# Altium schematic symbol library in3ator2.SCHLIB: 42 symbols
Pins are listed as number, name and electrical type; pins without a type are passive.

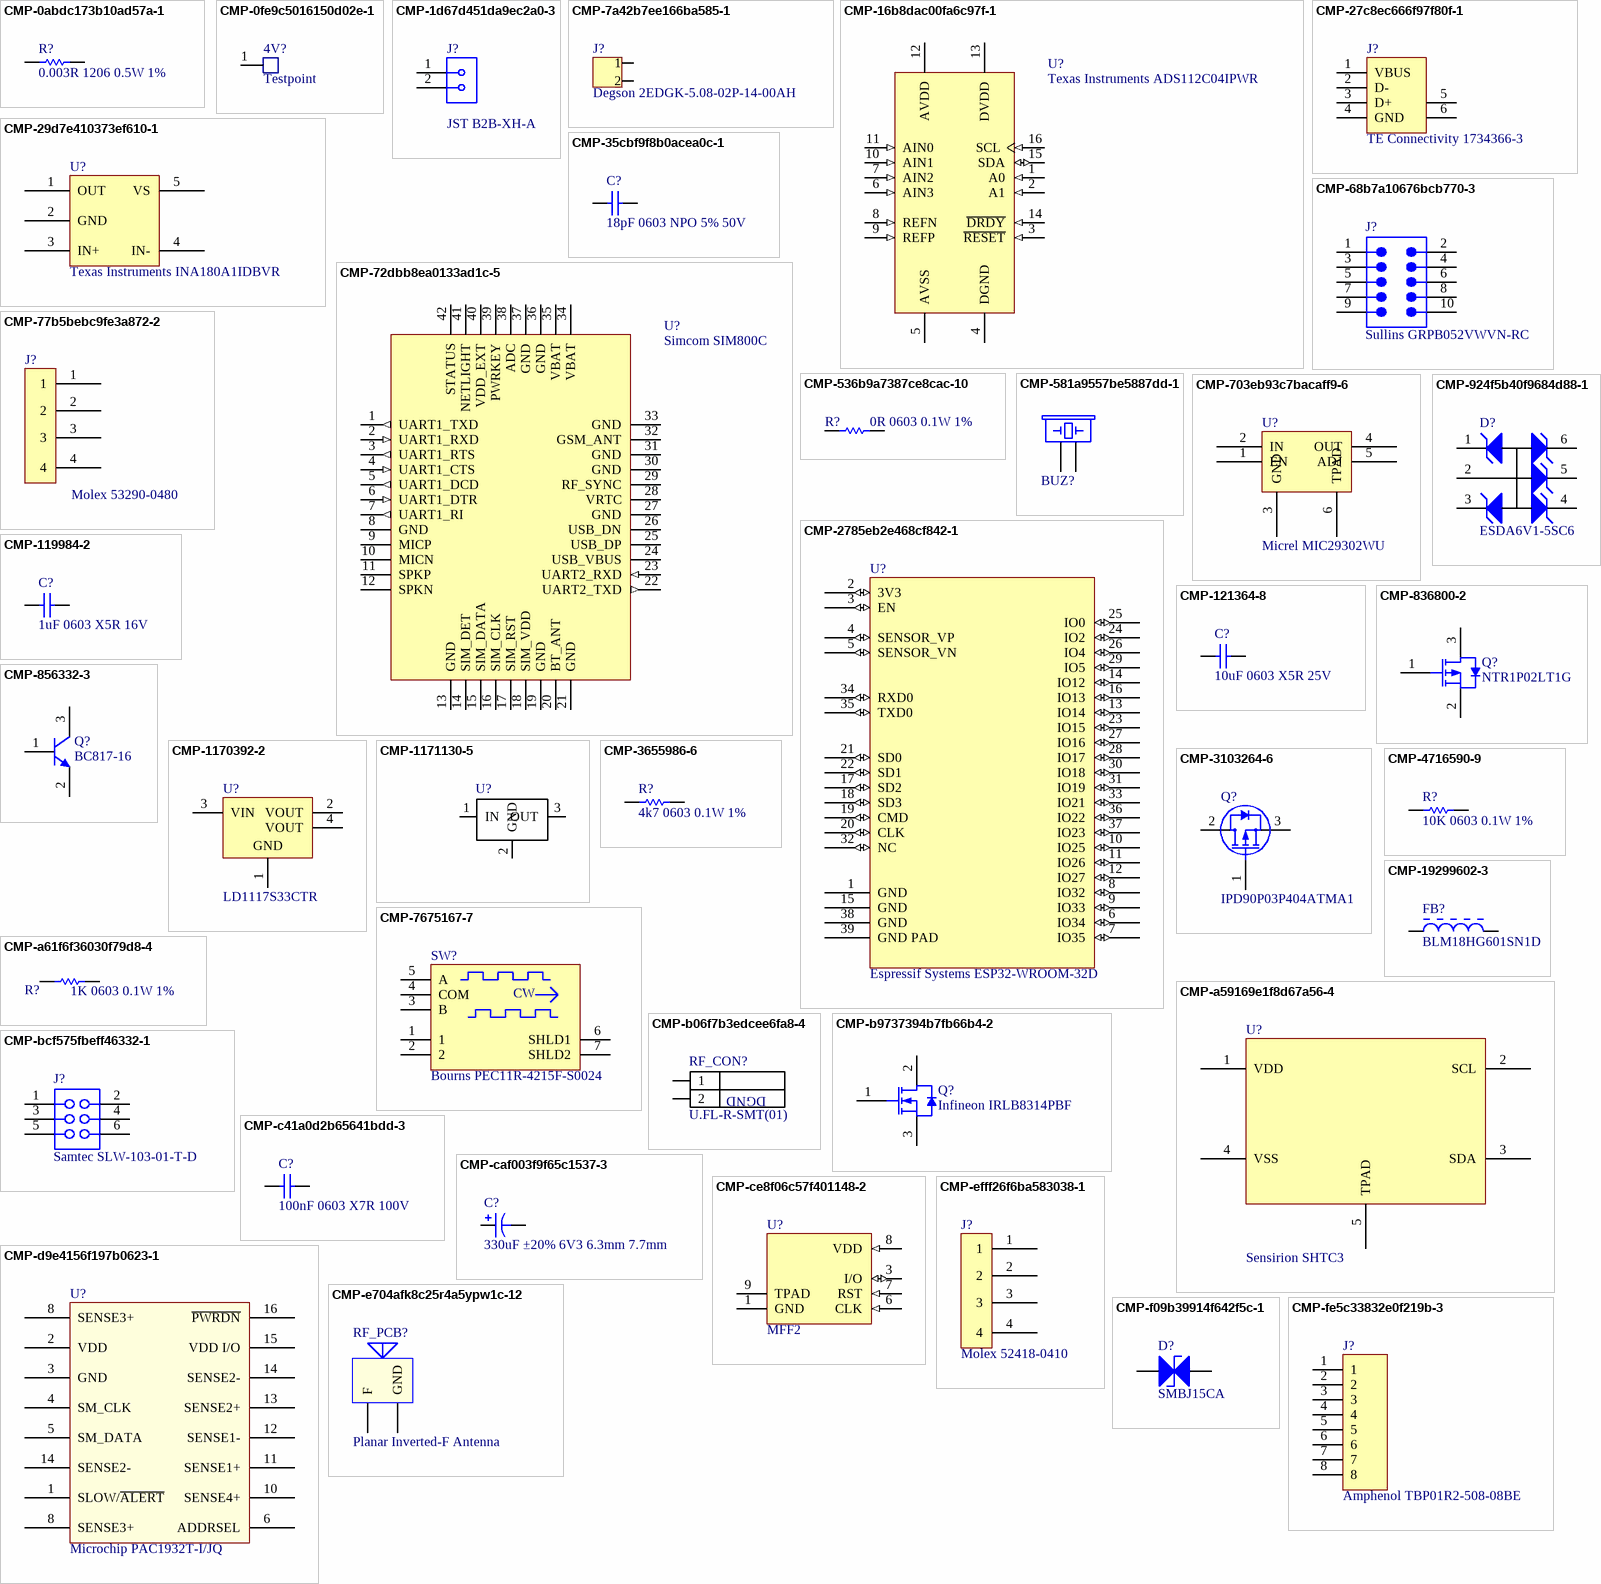
[diagram p0: symbols CMP-0abdc173b10ad57a-1 to CMP-fe5c33832e0f219b-3]

## CMP-0abdc173b10ad57a-1
designator R?, comment 0.003R 1206 0.5W 1%
Manufacturer Part Number: WSLP12065L000FEA; Resistance: 0,024; Power: 1W; Octopart URL: https://octopart.com/1-2176055-0-te+connectivity-46440145; Case/Package: 1206; Lifecycle Status: Not Listed by Manufacturer; Packaging: Tape & Reel (TR); OctopartID: 0abdc173b10ad57a; OrderingCode: WSLP12065L000FEA; Manufacturer Part Number 2: FMF06FTHR005-LHL
footprint CAPC3216X180X55ML20T25
pins: 1, 2
1 alternate drawing of the same symbol

## CMP-0fe9c5016150d02e-1
designator 4V?, comment Testpoint  (no BOM)
WR-PHD_1.27MM_JUMPER_BLACK W/ Pu; Octopart URL: https://octopart.com/622002115121-w%C3%BCrth+elektronik-65162207; Contact Material: Copper Alloy
footprint PCB-nm3bqur1hdh465dxvdoy-1 (Footprint - Weidmuller 1604830000)
pins: 1

## CMP-1d67d451da9ec2a0-3
designator J?, comment JST B2B-XH-A
Conn Shrouded Header HDR 2 POS 2.5mm Solder ST Thru-Hole Box; Contact Material: Phosphor Bronze; OctopartID: 1d67d451da9ec2a0; Orientation: Straight; Octopart URL: https://octopart.com/b2b-xh-a-jst-3990175; Manufacturer Part Number: B2B-XH-A; LCSC Part: C158012
footprint PCB-pp1at3pfx7vls1ur72ey-1 (Footprint - JST B2B-XH-A)
pins: 1, 2

## CMP-7a42b7ee166ba585-1
designator J?, comment Degson 2EDGK-5.08-02P-14-00AH
Terminal block, 5mm 2 Pos, through hole male.; Manufacturer Part Number: 2EDGK-5.08-02P-14-00AH + 2EDGVC-5.08-02P; Octopart URL: https://octopart.com/2edgk-5.08-02p-14-00ah-degson-78006607; OctopartID: 7a42b7ee166ba585; Manufacturer Part Number 2: WJ2EDGVC-5.08-2P + WJ2EDGK-5.08-2P; LCSC Part: C8445
footprint PCB-h4cyb3wxd4gf7j132tzl-1 (Footprint - TE Connectivity / AMP 1776244-2)
pins: 1, 2

## CMP-16b8dac00fa6c97f-1
designator U?, comment Texas Instruments ADS112C04IPWR
16-bit, 2-kSPS, 4-ch, low-power, small-size delta-sigma ADC with PGA, VREF, 2x IDACs & I2C interface 16-TSSOP -40 to...; Power Consumption: 1.40 mW; Case/Package: TSSOP; Lifecycle Status: Pre-Release; OctopartID: 16b8dac00fa6c97f; Number of Pins: 16; Manufacturer Part Number: ADS112C04IPWR; RoHS: Compliant; Operating Temperature: -40.0 °C to 125 °C; Octopart Url: https://octopart.com/ads112c04ipwr-texas+instruments-91372664
footprint TSOP65P640X120-16L (Footprint - Texas Instruments SN74AVC4T245PWR)
pins: 1 A0 (in) "I2C slave address select", 2 A1 (in) "I2C slave address select", 3 ~{RESET} (in) "I2C slave address select", 4 DGND (power) "Ground", 5 AVSS (power) "Ground", 6 AIN3 (in) "Differential channel 1: Negative input or single-ended channel 2 input", 7 AIN2 (in) "Differential channel 1: Negative input or single-ended channel 2 input", 8 REFN (in) "Differential channel 1: Negative input or single-ended channel 2 input", 9 REFP (in) "Differential channel 1: Negative input or single-ended channel 2 input", 10 AIN1 (in) "Differential channel 1: Negative input or single-ended channel 2 input", 11 AIN0 (in) "Differential channel 1: Positive input or single-ended channel 1 input", 12 AVDD (power) "Power supply: 2.0V to 5.5V", 13 DVDD (power) "Power supply: 2.0V to 5.5V", 14 ~{DRDY} (in) "I2C slave address select", 15 SDA (io) "Serial data: Transmits and receives data", 16 SCL (in) "Serial clock input: Clocks data on SDA"

## CMP-27c8ec666f97f80f-1
designator J?, comment TE Connectivity 1734366-3
Conn USB 2.0 Type A RCP 4 POS Solder ST Thru-Hole 4 Terminal 1 Port Tray; Gender: Female; Lead-Free Status: Lead Free; ELV Compliant: Compliant; Housing Color: Blue; Octopart URL: http://octopart.com/1734366-3-te+connectivity-44330297; Manufacturer Part Number: 1734366-3; Packaging: Tray; Lifecycle Status: Active; RoHS: Compliant; Housing Material: Thermoplastic; Contact Plating: Gold Flash, Gold Flash over Nickel; OctopartID: 27c8ec666f97f80f; LCSC Part: C32896
footprint PCB-wbedblczgi94a8su0lrn-1 (Footprint - TE Connectivity 1734366-3)
pins: 1 VBUS, 2 D-, 3 D+, 4 GND, 5 SHIELD, 6 SHIELD

## CMP-29d7e410373ef610-1
designator U?, comment Texas Instruments INA180A1IDBVR
26V, Low- or High-Side Voltage Output Current Sense Amplifier 5-SOT-23 -40 to 125; Manufacturer Part Number: INA180A3IDBVR; Lead-Free Status: Lead Free; Octopart URL: http://octopart.com/ina180a1idbvr-texas+instruments-80558991; OctopartID: 29d7e410373ef610; RoHS: Compliant; Footprint: PCB-0002-02157-1.A.1; Lifecycle Status: Active
footprint SOT23-5_D
pins: 1 OUT, 2 GND, 3 IN+, 4 IN-, 5 VS

## CMP-35cbf9f8b0acea0c-1
designator C?, comment 18pF 0603 NPO 5% 50V
Manufacturer Part Number: C0603C180K5RACTU; Capacitance: 18.0 pF; Capacitance Tolerance: ±10%; Dielectric Characteristic: X7R; Dielectric Material: Ceramic; Lead-Free Status: R; Voltage Rating (DC): 50.0 V; Octopart URL: https://octopart.com/c0603c180k5racauto-kemet-87662593; Case/Package: 0603; Mounting Style: Surface Mount; Operating Temperature: -55.0 °C (min); RoHS: Compliant; OctopartID: 35cbf9f8b0acea0c
footprint CAPC1608X60X35NL10T15
pins: 1, 2

## CMP-68b7a10676bcb770-3
designator J?, comment Sullins GRPB052VWVN-RC
GRPB Series Dual Row 10 Position 1.27 mm Pitch Through Hole Straight Header
footprint PCB-726v0lj5wyehxxuy7nut-1 (Footprint - Sullins GRPB052VWVN-RC)
pins: 1, 2, 3, 4, 5, 6, 7, 8, 9, 10

## CMP-72dbb8ea0133ad1c-5
designator U?, comment Simcom SIM800C
Module: GSM/Bluetooth; GPRS; 2G; 1800MHz, 900MHz; 85.6kbps; SMD; OctopartID: 72dbb8ea0133ad1c; Manufacturer Part Number: SIM800C; Mounting Style: Surface Mount; Octopart URL: http://octopart.com/sim800c-simcom-54220430; LCSC Part: C69120
footprint SIM800C (Footprint - Simcom SIM800C)
pins: 1 UART1_TXD (out), 2 UART1_RXD (in), 3 UART1_RTS (out), 4 UART1_CTS (in), 5 UART1_DCD (out), 6 UART1_DTR (in), 7 UART1_RI (out), 8 GND (power), 9 MICP, 10 MICN, 11 SPKP, 12 SPKN, 13 GND, 14 SIM_DET, 15 SIM_DATA, 16 SIM_CLK, 17 SIM_RST, 18 SIM_VDD, 19 GND, 20 BT_ANT, 21 GND, 22 UART2_TXD (out), 23 UART2_RXD (in), 24 USB_VBUS, 25 USB_DP, 26 USB_DN, 27 GND (power), 28 VRTC, 29 RF_SYNC, 30 GND (power), 31 GND (power), 32 GSM_ANT, 33 GND (power), 34 VBAT, 35 VBAT, 36 GND (power), 37 GND (power), 38 ADC, 39 PWRKEY, 40 VDD_EXT, 41 NETLIGHT, 42 STATUS

## CMP-77b5bebc9fe3a872-2
designator J?, comment Molex 53290-0480
Molex; SER Number 53290; 2mm Pitch 4Way 1Row Straight PCB Header; Solder Term; 1.5A; Mated Height: 6.00 mm; Gender: Male; Number of Contacts: 4; Current Rating: 1.50 A; Number of Circuits: 3, 4; Lead-Free Status: Lead Free; Pin Pitch: 2.00 mm; Glow Wire Compliant: Non-Compliant; Number of Rows: 1; Lifecycle Status: Active; OctopartID: 77b5bebc9fe3a872; Mounting Style: Through Hole; Size-Height: 6.00 mm; Size-Width: 3.70 mm; Operating Temperature: 105 °C (max); Octopart URL: https://octopart.com/53290-0480-molex-249136; Packaging: Bulk; RoHS: Compliant; Contact Plating: Tin; Halogen Free Status: Not Halogen Free; Manufacturer Part Number: 53290-0480; Number of Positions: 4; Size-Length: 11.0 mm; Orientation: Vertical
footprint PCB-az7j7v00du7ll54n3o04-1 (Footprint - Molex 53290-0480)
pins: 1, 2, 3, 4

## CMP-536b9a7387ce8cac-10
designator R?, comment 0R 0603 0.1W 1%
HelpURL: http://www.yageo.com/documents/recent/PYu-RC_Group_51_RoHS_L_9.pdf; Resistance: 0R; package: 0603
footprint RESC1609X55X30ML10T20
footprint PCB-vghjuybc2rzv8513tm8h-1 (CAPC1608X90X35NL15T15)
pins: 1, 2

## CMP-581a9557be5887dd-1
designator BUZ?, comment CUI CMT-1285C-035  (value not drawn)
Audio Buzzer Magnetic 3Vo-p 5Vo-p 70mA 3.5Vo-p 85dB Through Hole Pin Tray; Lead-Free Status: Lead Free; Octopart URL: https://octopart.com/cmt-1285c-035-cui-71811876; Manufacturer Part Number: CMT-1285C-035; Mounting Style: Through Hole; RoHS: Compliant; OctopartID: 581a9557be5887dd; Manufacturer Part Number 2: GMC1205YA-16R2048; LCSC Part: C252915
footprint BUZZER-12MM-NS
pins: 1 +, 2 -

## CMP-703eb93c7bacaff9-6
designator U?, comment Micrel MIC29302WU
MIC29302 Series 3 A 1.24 to 26 V ADJ Output Voltage LDO Regulator - TO-263-5; Footprint: PCC-0151-00797-6; LCSC Part: C9013
footprint TI-KTT5_N (DPAK, 5-Leads, Body 10.16x8.925mm, Pitch 1.7mm, IPC Medium Density)
pins: 1 EN, 2 IN, 3 GND, 4 OUT, 5 ADJ, 6 TPAD

## CMP-924f5b40f9684d88-1
designator D?, comment ESDA6V1-5SC6
ESDA Series 5 Channel 6.1 V 50 pF SMT Uni Directional Transil Array - SOT-23-6L; Operating Voltage: 6.10 V; Power Rating: 100 W; Breakdown Voltage: 7.20 V; Lead-Free Status: Lead Free; REACH SVHC Compliance: No SVHC; Number of Pins: 6; Case/Package: SOT-23; Size-Width: 1.75 mm; Mounting Style: Surface Mount; Manufacturer Part Number: ESDA6V1-5SC6; Size-Height: 1.45 mm; OctopartID: 924f5b40f9684d88; Size-Length: 3.05 mm; Packaging: Tape & Reel (TR), Cut Tape (CT); Octopart URL: http://octopart.com/esda6v1-5sc6-stmicroelectronics-347713; RoHS: Compliant; Voltage Rating (DC): 6.10 V; Lifecycle Status: Active; TME: ESDA6V1-5SC6; LCSC Part: C6650
footprint MF06A_N (SOT23, 6-Leads, Body 2.9x1.6mm, Pitch 0.95mm, Lead Span 2.8mm, IPC Medium Density)
pins: 1 K, 2 K, 3 K, 4 A, 5 A, 6 A

## CMP-2785eb2e468cf842-1
designator U?, comment Espressif Systems ESP32-WROOM-32D
SMD Module ESP32-WOOM-32D; Manufacturer Part Number: ESP32-WOOM-32D; Octopart Url: https://octopart.com/esp32-solo-1-espressif+systems-94454895; OctopartID: 2785eb2e468cf842; Mounting Style: Surface Mount; Manufacturer Part Number 2: ESP32-WROOM-32; LCSC Part: C473005
footprint PCB-1htnvixwtci0bg563is1-1
pins: 1 GND, 2 3V3 (io), 3 EN (io), 4 SENSOR_VP (io), 5 SENSOR_VN (io), 6 IO34 (io), 7 IO35 (io), 8 IO32 (io), 9 IO33 (io), 10 IO25 (io), 11 IO26 (io), 12 IO27 (io), 13 IO14 (io), 14 IO12 (io), 15 GND, 16 IO13 (io), 17 SD2 (io), 18 SD3 (io), 19 CMD (io), 20 CLK (io), 21 SD0 (io), 22 SD1 (io), 23 IO15 (io), 24 IO2 (io), 25 IO0 (io), 26 IO4 (io), 27 IO16 (io), 28 IO17 (io), 29 IO5 (io), 30 IO18 (io), 31 IO19 (io), 32 NC (io), 33 IO21 (io), 34 RXD0 (io), 35 TXD0 (io), 36 IO22 (io), 37 IO23 (io), 38 GND, 39 GND PAD

## CMP-119984-2
designator C?, comment 1uF 0603 X5R 16V
Manufacturer Part Number: GRM185R61C105KE44D; Capacitance Tolerance: ±10%; Case/Package (in): 0603; Lead-Free Status: Lead Free; Capacitance: 1uF; Dielectric Characteristic: X5R; Lifecycle Status: Active; Mounting Style: Surface Mount; Number of Pins: 2; Octopart Url: https://octopart.com/grm185r61c105ke44d-murata-197446; OctopartID: de3e1737f81e01f9; REACH SVHC Compliance: No SVHC; RoHS: Compliant; Size-Height: 0.0005 m; Size-Length: 0.0016 m; Size-Thickness: 0.0005 m; Size-Width: 0.0008 m; Rated voltage: 16V
footprint CAPC1608X60X35ML10T15
footprint CAPC1608X60X35NL10T15
footprint CAPC1608X60X35LL10T15
pins: 1, 2
1 alternate drawing of the same symbol

## CMP-121364-8
designator C?, comment 10uF 0603 X5R 25V
10uF 0603 X5R 6.3V; Rated voltage: 6v3; Dielectric carachteristic: X5R; Capacitance: 10uF; package: 0603
footprint CAPC1608X60X35NL10T15
footprint PCB-h8wyig0xzxvo0o8yi7q4-1 (CAPC1608X90X35ML10T15)
pins: 1, 2

## CMP-836800-2
designator Q?, comment NTR1P02LT1G
Power MOSFET, -20 V, -1.3 A, P-Channel, 3-Pin SOT-23, Pb-Free, Tape and Reel; Current Rating: -1.3 A; Drain to Source Resistance (on) (Rds): 0.22 Ω; Drain to Source Voltage (Vds): -20.0 V; Lead-Free Status: Lead Free; Power Dissipation: 0.4 W; Rise Time: 1.5e-08 s; Manufacturer Part Number: NTR1P02LT1G; Case/Package: SOT-23; Lifecycle Status: Active; Mounting Style: Surface Mount; Octopart Url: https://octopart.com/ntr1p02lt1g-on+semiconductor-341571; OctopartID: 11ecd8e302c9ce2b; Packaging: Tape; Polarity: P-Channel; RoHS: Compliant; Voltage Rating (DC): -20.0 V; LCSC Part: C2593
footprint ONSC-SOT-23-3-318-08_V (SOT23, 3-Leads, Body 2.92x1.3mm, Pitch 0.95mm)
pins: 1 G, 2 S, 3 D

## CMP-856332-3
designator Q?, comment BC817-16
TRANS NPN 45V 500mA SMD SOT23-3; Current Rating: 0.6 A; Lead-Free Status: Lead Free; Power Dissipation: 0.3 W; Voltage Rating (DC): 40.0 V; Case/Package: SOT-23; Lifecycle Status: Active; Mounting Style: Surface Mount; Number of Pins: 3; Octopart Url: https://octopart.com/mmbt2222a-7-f-diodes+inc.-357838; OctopartID: 53a79aa8030f8c60; Packaging: Cut Tape (CT); Polarity: NPN; REACH SVHC Compliance: No SVHC; RoHS: Compliant; LCSC Part: C507906
footprint PCB-856332-1 (DIOD-SOT23-3_V)
pins: 1 B, 2 E, 3 C

## CMP-1170392-2
designator U?, comment LD1117S33CTR
Fixed Low Drop Positive Voltage Regulator, 3.3V, 4-Pin SOT-223, Tape and Reel; Dropout Voltage: 1.1 V; Lead-Free Status: Lead Free; Number of Outputs: 1; Case/Package: SOT-223; Lifecycle Status: Active; Mounting Style: Surface Mount; Number of Pins: 3; Octopart Url: https://octopart.com/ld1117s33ctr-stmicroelectronics-526725; OctopartID: 0754ce562bb7d893; Output Voltage: 3.3 V; REACH SVHC Compliance: No SVHC; RoHS: Compliant; Manufacturer Part Number: LD1117S33CTR; LCSC Part: C35879
footprint SOT-223_M (SOT223, 4-Leads, Body 6.5x3.5mm, Pitch 2.3mm, Lead Span 7mm, IPC Low Density)
footprint SOT-223_L (SOT223, 4-Leads, Body 6.5x3.5mm, Pitch 2.3mm, Lead Span 7mm, IPC High Density)
footprint SOT-223_N (SOT223, 4-Leads, Body 6.5x3.5mm, Pitch 2.3mm, Lead Span 7mm, IPC Medium Density)
pins: 1 GND (power), 2 VOUT (power), 3 VIN (power), 4 VOUT (power)

## CMP-1171130-5
designator U?
L78M Series 500 mA 5 V Three Terminal Positive Voltage LDO Regulator - TO-252; Manufacturer Part Number: L78M05CDT-TR; Number of Outputs: 1; Dropout Voltage: 2.0 V; Lead-Free Status: Lead Free; Output Current: 0.5 A; Number of Pins: 3; Mounting Style: Surface Mount; Lifecycle Status: Active; REACH SVHC Compliance: No SVHC; OctopartID: e7772c1f5a2e38b0; Seller Landing  Url: https://octopart-clicks.com/click/track?country=US&ak=8157f166&sig=0997b0e&sid=2402&ppid=40015935&vpid=191195628&ct=offers; RoHS: Compliant; Octopart Url: http://octopart.com/l78m05cdt-tr-stmicroelectronics-40015935
footprint INF-PG-TO252-3-11_M (DPAK, 3-Leads, Body 6.5x6.12mm, Pitch 2.28mm, IPC Low Density)
pins: 1 IN, 2 GND, 3 OUT

## CMP-3103264-6
designator Q?, comment IPD90P03P404ATMA1
Single P-Channel 30 V 4.5 mOhm 100 nC OptiMOS Power Mosfet - TO-252-3-11; Lead-Free Status: Lead Free; REACH SVHC Compliance: No SVHC; Octopart URL: https://octopart.com/ipd90p03p404atma1-infineon-21386769; Polarity: P-Channel; RoHS: Compliant; Mounting Style: Surface Mount; Operating Temperature: 175 °C (max); Packaging: Reel; Number of Pins: 3; OctopartID: f6ad3ee185da296a; Manufacturer Part Number: IPD90P03P404ATMA1; Manufacturer Part Number 2: WSF70P03; LCSC Part: C148439
footprint DPAK IPD90P03P404ATMA1 (Footprint - Infineon IPD90P03P404ATMA1)
pins: 1 G, 2 D, 3 S

## CMP-3655986-6
designator R?, comment 4k7 0603 0.1W 1%
Resistance: 5k1; Tolerance: 1%; package: 0603
footprint RESC1609X55X30ML10T20
pins: 1, 2

## CMP-4716590-9
designator R?, comment 10K 0603 0.1W 1%
Octopart Url: https://octopart.com/crcw060310k0fkeahp-vishay-42634028; package: 0603; Resistance: 10k; Tolerance: 1%
footprint R0603-nominal (Footprint - Vishay Dale CRCW060310K0FKEAHP)
footprint RESC1609X55X30ML10T20
footprint PCB-c371zjm76gn0w8x4p59v-1 (Footprint - Vishay Dale CRCW060310K0FKEAHP)
footprint RESC1609X55X30LL10T20
footprint RESC1609X55X30NL10T20
footprint PCB-xlyyawtmyin8dsjhttv4-1 (Footprint - Vishay Dale CRCW060310K0FKEAHP)
footprint PCB-4abppfb21vtaf8x2o3vd-1 (Footprint - Vishay Dale CRCW060310K0FKEAHP)
pins: 1, 2
1 alternate drawing of the same symbol

## CMP-7675167-7
designator SW?, comment Bourns PEC11R-4215F-S0024
12 mm Incremental Encoder, 24 Detent, -30 to 70 degC, 5-Pin THD, RoHS, Bulk; Number of Detents: 24; Size-Length: 13.4 mm; Seller Landing  Url: https://octopart.com/click/track?country=US&ak=8157f166&sig=0be53b6&sid=1106&ppid=26648293&vpid=76310724&ct=offers; Manufacturer Part Number: PEC11R-4215F-S0024; ComponentLink2Description: Datasheet; Octopart Url: http://octopart.com/pec11r-4215f-s0024-bourns-26648293; ComponentLink1URL: http://www.bourns.com/; RoHS: Compliant; ComponentLink1Description: Manufacturer URL; PackageReference: PEC11R-4XXXF-SXXXX; PackageDescription: 5-Pin Through Hole Device, Body 12.5 x 13.4 mm; Size-Width: 12.5 mm; OctopartID: f33f3ba348bc2cf8; DatasheetVersion: Jul-14; ComponentLink2URL: http://www.bourns.com/docs/Product-Datasheets/PEC11R.pdf; REACH SVHC Compliance: No SVHC; LCSC Part: C470742
footprint BOUR-PEC11R-4XXXF-SXXXX_V (THD, 5-Leads, Body 12.5x13.4mm)
pins: 1, 2, 3 B "Channel B", 4 COM "Common", 5 A "Channel A", 6 SHLD1, 7 SHLD2
text: CW

## CMP-19299602-3
designator FB?, comment BLM18HG601SN1D
Current Rating: 0.2 A; Frequency: 100000000.0 Hz; Lead-Free Status: Lead Free; Number of Circuits: 1; Resistance: 600.0 Ω; Shielding: No; Value: 600ohm 200mA; Manufacturer Part Number: BLM18HG601SN1D; Case/Package: 0603; Mounting Style: Surface Mount; Number of Pins: 2; Octopart Url: https://octopart.com/blm18hg601sn1d-murata-368340; OctopartID: c121082e7a931ee6; REACH SVHC Compliance: No SVHC; RoHS: Compliant; Size-Height: 0.0008 m; Size-Length: 0.0016 m; Size-Width: 0.0008 m; LCSC Part: C85830
footprint MURA-BLM18-RF-H4-CHIP-2_V (Chip Ferrite Bead, 2-Leads, Body 1.6x0.8mm, Height 0.95mm, Reflow)
footprint MURA-BLM18-F-H1-CHIP-2_V (Chip Ferrite Bead, 2-Leads, Body 1.6x0.8mm, Height 0.95mm, Flow)
pins: 1, 2

## CMP-a61f6f36030f79d8-4
designator R?, comment 1K 0603 0.1W 1%
Manufacturer Part Number: CR0603-FX-1001ELF; Power Rating: 100 mW; Case/Package (SI): 1608; Voltage Rating (DC): 50.0 V; Temperature Coefficient: -100 ppm/°C to 100 ppm/°C; REACH SVHC Compliance: No SVHC; Packaging: Tape & Reel (TR), Cut Tape (CT); Resistance Tolerance: ±1%; Resistance: 1k; RoHS: Compliant; Mounting Style: Surface Mount; Number of Pins: 2; Size-Length: 1.60 mm; Octopart URL: https://octopart.com/cr0603-fx-1001elf-bourns-2326646; Size-Thickness: 457 µm; OctopartID: a61f6f36030f79d8; Size-Width: 787 µm; Case/Package: 0603
footprint RC0603_OV
footprint RESC1609X55X30ML10T20
footprint CAPC1608X60X35NL10T15
pins: 1, 2

## CMP-a59169e1f8d67a56-4
designator U?, comment Sensirion SHTC3
Humidity & Temperature Sensor ±2% RH ±0, 2°C I2C DFN4; OctopartID: a59169e1f8d67a56
footprint DFN4 2x2 + EP (Footprint - Sensirion SHTC3)
pins: 1 VDD, 2 SCL, 3 SDA, 4 VSS, 5 TPAD

## CMP-b06f7b3edcee6fa8-4
designator RF_CON?, comment U.FL-R-SMT(01)
Connector RF Coaxial Data Midget Coaxial; DNP: DNP
footprint PCB-ci0d6ius1xp1vci7q9ug-1 (Footprint - Hirose U.FL-R-SMT(01))
pins: 1 "ground", 2 "ground"
text: DGND

## CMP-b9737394b7fb66b4-2
designator Q?, comment Infineon IRLB8314PBF
Trans MOSFET N-CH 30V 171A 3-Pin(3+Tab) TO-220AB Tube; LCSC Part: C501520
footprint PCB-s29nlaacffy4qzcyhtz9-1 (Footprint - Infineon IRLB8314PBF)
pins: 1 G, 2 D, 3 S

## CMP-bcf575fbeff46332-1
designator J?, comment Samtec SLW-103-01-T-D
Dual Row Connector Female Samtec SLW-103-01-T-D; Lead-Free Status: Lead Free; Number of Contacts: 6; Pin Pitch: 2.54 mm; Voltage Rating (AC): 400 V; Gender: Female; Color: Black; Octopart URL: https://octopart.com/slw-103-01-t-d-samtec-292455; Mounting Style: Through Hole, Vertical; Contact Plating: Tin; OctopartID: bcf575fbeff46332; Operating Temperature: 105 °C (max); Size-Width: 4.95 mm; Housing Material: Plastic; Size-Length: 7.62 mm; Number of Rows: 2; Footprint: PCB-37z8hw1ej4f71bosen9e-1; Size-Height: 4.57 mm; Packaging: Tube; RoHS: Compliant; Contact Material: Phosphor Bronze; Number of Positions: 6; Housing Color: Black; REACH SVHC Compliance: No SVHC; Manufacturer Part Number: SLW-103-01-T-D
footprint PCB-37z8hw1ej4f71bosen9e-1 (Footprint - Samtec SLW-103-01-T-D)
pins: 1, 2, 3, 4, 5, 6

## CMP-c41a0d2b65641bdd-3
designator C?, comment 100nF 0603 X7R 100V
Manufacturar Part Number: CC0603KRX7R0BB104; package: 0603; capacitance: 100 nF; Dielectric Characteristic: X7R; Rated voltage: 100V
footprint PCB-vacqisieyscyt9e4k3s1-1 (CAPC1608X90X35ML10T15)
footprint CAPC1608X60X35NL10T15
footprint PCB-6og4742nbfvg9ofg3p4o-1 (CAPC1608X90X35NL15T15)
pins: 1, 2

## CMP-caf003f9f65c1537-3
designator C?, comment 330uF ±20% 6V3 6.3mm 7.7mm
330uF ±20% 6.3V 6.3mm 7.7mm; Manufacturer: Nichicon; Manufacturer Part Number: 865080145010; Capacitance: 330 µF; Lead-Free Status: Lead Free; Dielectric Material: Aluminum Electrolytic; Size-Diameter: 6.30 mm; Footprint: PCB-r5e6et9fc4gd5l77rxf0-1; Capacitance Tolerance: ±20%; Octopart URL: https://octopart.com/uwt1v101mcl1gs-nichicon-203210; Size-Height: 7.70 mm; Size-Length: 7.70 mm; RoHS: Compliant; Mounting Style: Surface Mount; Number of Pins: 2; Packaging: Tape & Reel (TR), Cut Tape (CT); OctopartID: caf003f9f65c1537; Voltage Rating (DC): 6.3 V; Operating Temperature: 105 °C (max); Manufacturer Part Number 2: CS0J331M-CRE77
footprint PCB-r5e6et9fc4gd5l77rxf0-1
pins: 1, 2

## CMP-ce8f06c57f401148-2
designator U?, comment MFF2
Embedded SIM card in MFF2; DNP: DNP
footprint SON127P600X95_HS-9N (SON, 8-Leads, Body 5.00x6.00mm, Pitch 1.27mm, Thermal Pad 3.90x2.77mm, IPC Medium Density)
pins: 1 GND (power), 3 I/O (io), 6 CLK (in), 7 RST (in), 8 VDD (in), 9 TPAD (power)

## CMP-d9e4156f197b0623-1
designator U?, comment Microchip PAC1932T-I/JQ
Quad-Channel DC Power/Energy Monitor with Accumulator 2.7V to 5.5V 16-Pin UQFN T/R; Supply Voltage (DC): 5.50 V (max), 2.70 V (min); Lead-Free Status: Lead Free; Case/Package: UQFN; RoHS: Compliant; OctopartID: d9e4156f197b0623; Lifecycle Status: Not Listed by Manufacturer; Footprint: PCB-slhvsuredfplrhj7d1lj-1; Operating Temperature: -40.0 °C (min); Octopart URL: https://octopart.com/pac1932t-i%2Fjq-microchip-92399097; Manufacturer Part Number: PAC1932T-I/JQ
footprint PCB-slhvsuredfplrhj7d1lj-1 (Footprint - Microchip PIC16F1454-I/JQ)
pins: 1 SLOW/~{ALERT}, 2 VDD, 3 GND, 4 SM_CLK, 5 SM_DATA, 6 ADDRSEL, 8 SENSE3+, 8 SENSE3+, 10 SENSE4+, 11 SENSE1+, 12 SENSE1-, 13 SENSE2+, 14 SENSE2-, 14 SENSE2-, 15 VDD I/O, 16 ~{PWRDN}

## CMP-e704afk8c25r4a5ypw1c-12
designator RF_PCB?, comment Planar Inverted-F Antenna  (no BOM)
GSM900 and GSM1800  Frequency Bands PCB antenna; CustomComponentID: e704afk8c25r4a5ypw1c
footprint PCB-k9titb4465gfk1ijwrnj-1 (Footprint - Planar Inverted-F Antenna)
pins: 1 F, 2 GND

## CMP-efff26f6ba583038-1
designator J?, comment Molex 52418-0410
2.00mm Pitch Board-to-Board Receptacle, Right Angle, Single Row, Friction Lock, 4 Circuits; Contact Resistance: 20.0 m? (max); Current Rating: 1.50 A; Gender: Female; Glow Wire Compliant: Non-Compliant; Insulation Resistance: 1.00 G? (min); Lead-Free Status: Lead Free; Number of Circuits: 3, 4; Number of Contacts: 4; Octopart URL: https://octopart.com/52418-0410-molex-225473; Manufacturer Part Number: 52418-0410; Contact Material: Phosphor Bronze; Contact Plating: Tin; Flammability Rating: UL 94 V-0; Halogen Free Status: Not Low Halogen; Housing Material: Plastic; Lifecycle Status: Active; Mounting Style: Through Hole; Number of Positions: 4; Number of Rows: 1; Operating Temperature: 105 °C (max); Orientation: Right Angle; Packaging: Tray; Pin Pitch: 2.00 mm; REACH SVHC Compliance: No SVHC; RoHS: Compliant; Size-Height: 3.15 mm; Size-Length: 9.50 mm; Size-Width: 4.00 mm; OctopartID: efff26f6ba583038
footprint PCB-2exqb8kt510pgx9iz0yo-1 (Footprint - Molex 52418-0410)
pins: 1, 2, 3, 4

## CMP-f09b39914f642f5c-1
designator D?, comment SMBJ15CA
SMBJ15 Series 24.4 V 600 W Bi-Directional Transient Voltage Suppressor-DO-214AA; Power Dissipation: 5.00 W; Breakdown Voltage: 16.7 V; Power Rating: 600 W; Octopart URL: http://octopart.com/smbj15ca-littelfuse-39577; Mounting Style: Surface Mount; RoHS: Compliant; LCSC Part: C499834
footprint PCB-acsqsz06h0bi34fqghyj-1 (Footprint - Littelfuse SMBJ15CA)
pins: 1 A, 2 K

## CMP-fe5c33832e0f219b-3
designator J?, comment Amphenol TBP01R2-508-08BE
Term Block Hdr 8POS 90DEG 5.08MM; Manufacturer Part Number: TBP01R2-508-08BE + TBP01P1-508-08BE; Mating connector: TBP01P1-508-08BE; OctopartID: fe5c33832e0f219b; Manufacturer Part Number 2: WJ2EDGVC-5.08-8P + KF2EDGK-5.08-8P; LCSC Part: C15084
footprint PCB-9bbxoaz61thsmuxn7f5e-1 (Footprint - Phoenix Contact 1786462)
pins: 1, 2, 3, 4, 5, 6, 7, 8

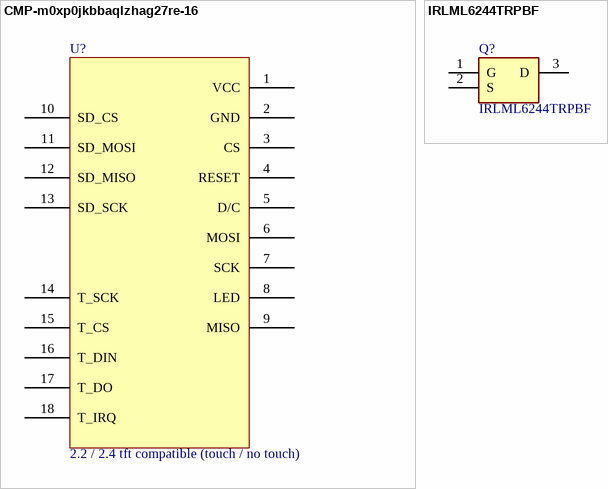
[diagram p1: symbols CMP-m0xp0jkbbaqlzhag27re-16 to IRLML6244TRPBF]

## CMP-m0xp0jkbbaqlzhag27re-16
designator U?, comment 2.2 / 2.4 tft compatible (touch / no touch)
TZT 2.4" 240x320 SPI TFT LCD Serial Port Module+5V/3.3V PBC Adapter Micro SD ILI9341; CustomComponentID: m0xp0jkbbaqlzhag27re
footprint PCB-09sj8l52j02vyzear9ft-1 (Footprint - 2.2 / 2.4 tft compatible (touch / no touch))
footprint PCB-0iq7iyy8nrzrpmpo9lhg-1 (Footprint - 2.2 / 2.4 tft compatible (touch / no touch))
footprint PCB-3toksntatosxbsuzovrj-1 (Footprint - 2.2 / 2.4 tft compatible (touch / no touch))
pins: 1 VCC, 2 GND, 3 CS, 4 RESET, 5 D/C, 6 MOSI, 7 SCK, 8 LED, 9 MISO, 10 SD_CS, 11 SD_MOSI, 12 SD_MISO, 13 SD_SCK, 14 T_SCK, 15 T_CS, 16 T_DIN, 17 T_DO, 18 T_IRQ

## IRLML6244TRPBF
designator Q?
Transistor; Manufacturer_Name: Infineon; Datasheet Link: http://www.infineon.com/dgdl/irlml6244pbf.pdf?fileId=5546d462533600a4015356686fed261f; Height: 1.12mm; Manufacturer_Part_Number: IRLML6244TRPBF; Mouser Part Number: 942-IRLML6244TRPBF; Mouser Price/Stock: https://www.mouser.co.uk/ProductDetail/Infineon-IR/IRLML6244TRPBF?qs=9%252BKlkBgLFf1HkY%2F2U%252BIhLQ%3D%3D; Arrow Part Number: IRLML6244TRPBF; Arrow Price/Stock: https://www.arrow.com/en/products/irlml6244trpbf/infineon-technologies-ag?region=nac
footprint SOT95P237X112-3N
pins: 1 G, 2 S, 3 D